# Altium footprint library Power_Card_1.PcbLib: 40 footprints (part 3 of 3)
Each footprint in its own frame and in the unit in brackets; x right, y up, seen from the top. Pads: shape width x height; smd on the part's side, far side on the other; paste and mask are expansions set on the pad; w line width, h text height; cw(c..) or ccw(c..) is an arc to the next point about the centre after c.
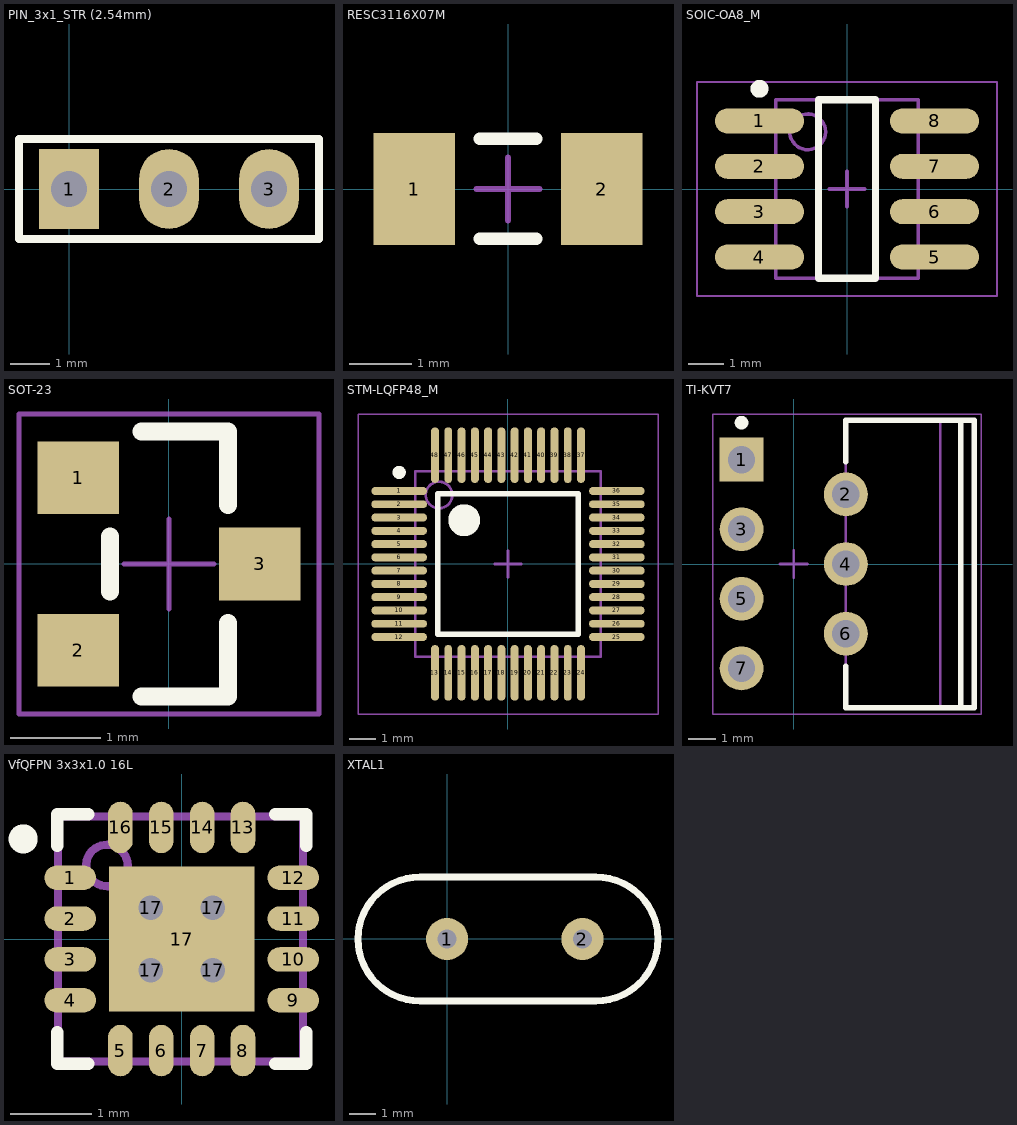
[diagram p2: the footprints below, top view; thin cyan lines are the x and y axes]

## PIN_3x1_STR (2.54mm) [mil]
pads (3):
  rect 60x80 hole 36: 1(0,0)
  oval 60x80 hole 36: 2(100,0) 3(200,0)
Top Overlay:
  lines w8: -50,-50 250,-50 250,0 250,50 -50,50 -50,0 -50,-50
3D body "Pin header 1x3 TH Pitch 2_54mm.step": height 373.85, standoff -125.98, extent -50,-50 250,50

## RESC3116X07M [mm]
pads (2):
  rect 1.3x1.8 smd: 1(-1.5,0) 2(1.5,0)
Top Overlay:
  lines w0.2: -0.45,-0.8 0.45,-0.8 ; -0.45,0.8 0.45,0.8
Mechanical 15:
  lines w0.1: -0.5,0 0.5,0 ; 0,-0.5 0,0.5
3D body "User Library-YAGEO RC1206.STEP": height 0.52, standoff -0.03, extent -1.55,-0.8 1.55,0.8

## SOIC-OA8_M [mm]
pads (8):
  oval 2.5x0.7 smd: 1(-2.45,1.905) 2(-2.45,0.635) 3(-2.45,-0.635) 4(-2.45,-1.905) 5(2.45,-1.905) 6(2.45,-0.635) 7(2.45,0.635) 8(2.45,1.905)
Top Overlay:
  circle w0.25: c-2.45,2.805 r0.125
  lines w0.2: -0.8,-2.5 -0.8,2.5 0.8,2.5 0.8,-2.5 -0.8,-2.5
Mechanical 13:
  circle w0.1: c-1.1,1.6 r0.5
  lines w0.1: -2,-2.5 -2,2.5 2,2.5 2,-2.5 -2,-2.5
Mechanical 15:
  lines w0.05: -4.2,-3 -4.2,3 4.2,3 4.2,-3 -4.2,-3
  lines w0.1: -0.5,0 0.5,0 ; 0,-0.5 0,0.5
3D body "User Library-SOIC-8-1.step": height 1.75, standoff 0, extent -3,-2.45 3,2.45

## SOT-23 [mm]
pads (3):
  rect 0.9x0.8 smd: 1(-1,0.95) 2(-1,-0.95) 3(1,0)
Top Overlay:
  lines w0.2: -0.65,-0.3 -0.65,0.3 ; -0.3,-1.46 0.65,-1.46 0.65,-0.65 ; -0.3,1.46 0.65,1.46 0.65,0.65
Mechanical 15:
  lines w0.05: -0.5,0 0.5,0 ; 0,-0.5 0,0.5 ; -1.651,-1.651 1.651,-1.651 1.651,1.651 -1.651,1.651 -1.651,-1.651
3D body "User Library-SOT-23-4.step": height 1.07, standoff 0, extent -1.191,-1.475 1.191,1.475

## STM-LQFP48_M [mm]
pads (48):
  oval 2.1x0.3 smd: 1(-4.1,2.75) 2(-4.1,2.25) 3(-4.1,1.75) 4(-4.1,1.25) 5(-4.1,0.75) 6(-4.1,0.25) 7(-4.1,-0.25) 8(-4.1,-0.75) 9(-4.1,-1.25) 10(-4.1,-1.75) 11(-4.1,-2.25) 12(-4.1,-2.75) 25(4.1,-2.75) 26(4.1,-2.25) 27(4.1,-1.75) 28(4.1,-1.25) 29(4.1,-0.75) 30(4.1,-0.25) 31(4.1,0.25) 32(4.1,0.75) 33(4.1,1.25) 34(4.1,1.75) 35(4.1,2.25) 36(4.1,2.75)
  oval 0.3x2.1 smd: 13(-2.75,-4.1) 14(-2.25,-4.1) 15(-1.75,-4.1) 16(-1.25,-4.1) 17(-0.75,-4.1) 18(-0.25,-4.1) 19(0.25,-4.1) 20(0.75,-4.1) 21(1.25,-4.1) 22(1.75,-4.1) 23(2.25,-4.1) 24(2.75,-4.1) 37(2.75,4.1) 38(2.25,4.1) 39(1.75,4.1) 40(1.25,4.1) 41(0.75,4.1) 42(0.25,4.1) 43(-0.25,4.1) 44(-0.75,4.1) 45(-1.25,4.1) 46(-1.75,4.1) 47(-2.25,4.1) 48(-2.75,4.1)
Top Overlay:
  circle w0.25: c-4.1,3.45 r0.125
  circle w0.6: c-1.65,1.65 r0.3
  lines w0.2: -2.65,-2.65 -2.65,2.65 2.65,2.65 2.65,-2.65 -2.65,-2.65
Mechanical 13:
  circle w0.1: c-2.6,2.6 r0.5
  lines w0.1: -3.5,-3.5 -3.5,3.5 3.5,3.5 3.5,-3.5 -3.5,-3.5
Mechanical 15:
  lines w0.05: -5.65,-5.65 -5.65,5.65 5.65,5.65 5.65,-5.65 -5.65,-5.65
  lines w0.1: -0.5,0 0.5,0 ; 0,-0.5 0,0.5
3D body: height 1.6, standoff 0.05, extent -3.5,-3.5 3.5,3.5

## TI-KVT7 [mm]
pads (7):
  rect 1.6x1.6 hole 1: 1(-1.905,3.81)
  round 1.6 hole 1: 2(1.905,2.54) 3(-1.905,1.27) 4(1.905,0) 5(-1.905,-1.27) 6(1.905,-2.54) 7(-1.905,-3.81)
Top Overlay:
  circle w0.25: c-1.905,5.16 r0.125
  lines w0.2: 1.895,-3.74 1.895,-5.25 6.595,-5.25 6.595,5.25 1.895,5.25 1.895,3.74 ; 6.095,-5.25 6.095,5.25
Mechanical 13:
  lines w0.1: 5.345,-5.205 5.345,5.205 ; 1.895,-5.205 6.595,-5.205 6.595,5.205 1.895,5.205 1.895,-5.205
Mechanical 15:
  lines w0.05: -2.955,-5.475 6.845,-5.475 6.845,5.475 -2.955,5.475 -2.955,-5.475
  lines w0.1: -0.5,0 0.5,0 ; 0,-0.5 0,0.5
3D body: height 21.43, standoff 20.61, extent 5.345,-5.075 6.595,5.075
3D body: height 19.06, standoff 18.68, extent 5.345,-5.075 6.595,-1.925
3D body: height 19.06, standoff 18.68, extent 5.345,1.925 6.595,5.075
3D body: height 18.68, standoff 18.3, extent 5.345,-5.075 6.595,-1.925
3D body: height 18.68, standoff 18.3, extent 5.345,1.925 6.595,5.075
3D body: height 19.42, standoff 19.06, extent 5.345,-5.075 6.595,-1.888
3D body: height 19.42, standoff 19.06, extent 5.345,1.888 6.595,5.075
3D body: height 18.31, standoff 17.94, extent 5.345,-5.075 6.595,-1.888
3D body: height 18.31, standoff 17.94, extent 5.345,1.888 6.595,5.075
3D body: height 19.75, standoff 19.42, extent 5.345,-5.075 6.595,-1.778
3D body: height 19.75, standoff 19.42, extent 5.345,1.778 6.595,5.075
3D body: height 17.95, standoff 17.61, extent 5.345,-5.075 6.595,-1.778
3D body: height 17.95, standoff 17.61, extent 5.345,1.778 6.595,5.075
3D body: height 20.05, standoff 19.75, extent 5.345,-5.075 6.595,-1.601
3D body: height 20.05, standoff 19.75, extent 5.345,1.601 6.595,5.075
3D body: height 17.62, standoff 17.32, extent 5.345,-5.075 6.595,-1.601
3D body: height 17.62, standoff 17.32, extent 5.345,1.601 6.595,5.075
3D body: height 20.29, standoff 20.04, extent 5.345,-5.075 6.595,-1.361
3D body: height 20.29, standoff 20.04, extent 5.345,1.361 6.595,5.075
3D body: height 17.32, standoff 17.08, extent 5.345,-5.075 6.595,-1.361
3D body: height 17.32, standoff 17.08, extent 5.345,1.361 6.595,5.075
3D body: height 20.46, standoff 20.28, extent 5.345,-5.075 6.595,-1.069
3D body: height 20.46, standoff 20.28, extent 5.345,1.069 6.595,5.075
3D body: height 17.08, standoff 16.9, extent 5.345,-5.075 6.595,-1.069
3D body: height 17.08, standoff 16.9, extent 5.345,1.069 6.595,5.075
3D body: height 20.57, standoff 20.46, extent 5.345,-5.075 6.595,-0.737
3D body: height 20.57, standoff 20.46, extent 5.345,0.737 6.595,5.075
3D body: height 16.91, standoff 16.79, extent 5.345,-5.075 6.595,-0.737
3D body: height 16.91, standoff 16.79, extent 5.345,0.737 6.595,5.075
3D body: height 20.61, standoff 20.57, extent 5.345,-5.075 6.595,-0.376
3D body: height 20.61, standoff 20.57, extent 5.345,0.376 6.595,5.075
3D body: height 16.8, standoff 16.76, extent 5.345,-5.075 6.595,-0.376
3D body: height 16.8, standoff 16.76, extent 5.345,0.376 6.595,5.075
3D body: height 16.76, standoff 15.18, extent 5.345,-5.075 6.595,5.075
3D body: height 15.18, standoff 5.34, extent 1.895,-5.225 6.595,5.225
3D body: height 0, standoff -1.6, extent -2.15,-4.205 -1.66,-3.415
3D body: height 5.34, standoff 2.92, extent 4,-4.36 4.49,-3.26
3D body: height 2.92, standoff 2.43, extent -2.15,-4.36 4.49,-3.26
3D body: height 2.43, standoff 0, extent -2.15,-4.36 -1.66,-3.26
3D body: height 0, standoff -1.6, extent 1.66,-2.935 2.15,-2.145
3D body: height 5.34, standoff 2.92, extent 4,-3.09 4.49,-1.99
3D body: height 2.92, standoff 2.43, extent 1.66,-3.09 4.49,-1.99
3D body: height 2.43, standoff 0, extent 1.66,-3.09 2.15,-1.99
3D body: height 0, standoff -1.6, extent -2.15,-1.665 -1.66,-0.875
3D body: height 5.34, standoff 2.92, extent 4,-1.82 4.49,-0.72
3D body: height 2.92, standoff 2.43, extent -2.15,-1.82 4.49,-0.72
3D body: height 2.43, standoff 0, extent -2.15,-1.82 -1.66,-0.72
3D body: height 0, standoff -1.6, extent 1.66,-0.395 2.15,0.395
3D body: height 5.34, standoff 2.92, extent 4,-0.55 4.49,0.55
3D body: height 2.92, standoff 2.43, extent 1.66,-0.55 4.49,0.55
3D body: height 2.43, standoff 0, extent 1.66,-0.55 2.15,0.55
3D body: height 0, standoff -1.6, extent -2.15,0.875 -1.66,1.665
3D body: height 5.34, standoff 2.92, extent 4,0.72 4.49,1.82
3D body: height 2.92, standoff 2.43, extent -2.15,0.72 4.49,1.82
3D body: height 2.43, standoff 0, extent -2.15,0.72 -1.66,1.82
3D body: height 0, standoff -1.6, extent 1.66,2.145 2.15,2.935
3D body: height 5.34, standoff 2.92, extent 4,1.99 4.49,3.09
3D body: height 2.92, standoff 2.43, extent 1.66,1.99 4.49,3.09
3D body: height 2.43, standoff 0, extent 1.66,1.99 2.15,3.09
3D body: height 0, standoff -1.6, extent -2.15,3.415 -1.66,4.205
3D body: height 5.34, standoff 2.92, extent 4,3.26 4.49,4.36
3D body: height 2.92, standoff 2.43, extent -2.15,3.26 4.49,4.36
3D body: height 2.43, standoff 0, extent -2.15,3.26 -1.66,4.36

## VfQFPN 3x3x1.0 16L [mm]
pads (21):
  oval 0.63x0.3 smd: 1(-1.365,0.75) 2(-1.365,0.25) 3(-1.365,-0.25) 4(-1.365,-0.75) 9(1.365,-0.75) 10(1.365,-0.25) 11(1.365,0.25) 12(1.365,0.75)
  oval 0.3x0.63 smd: 5(-0.75,-1.365) 6(-0.25,-1.365) 7(0.25,-1.365) 8(0.75,-1.365) 13(0.75,1.365) 14(0.25,1.365) 15(-0.25,1.365) 16(-0.75,1.365)
  round 0.6 hole 0.3: 17(-0.381,-0.381) 17(-0.381,0.381) 17(0.381,-0.381) 17(0.381,0.381)
  rect 1.778x1.778 smd: 17(0,0)
Top Overlay:
  circle w0.254: c-1.94,1.225 r0.051
  lines w0.152: -1.524,-1.143 -1.524,-1.524 -1.143,-1.524 ; -1.524,1.143 -1.524,1.524 -1.143,1.524 ; 1.143,-1.524 1.524,-1.524 1.524,-1.143 ; 1.143,1.524 1.238,1.524 1.429,1.524 1.524,1.524 1.524,1.143
Mechanical 8:
  circle w0.1: c-0.915,0.9 r0.254
  lines w0.1: -1.515,-1.5 -1.515,1.5 1.485,1.5 1.485,-1.5 -1.515,-1.5
Mechanical 15:
  lines w0.051: -0.33,0 0.33,0 ; 0,-0.33 0,0.33
3D body "ALSRobot-QFN16%203x3[1].STEP": height 0.9, standoff 0, extent -1.549,-1.521 1.493,1.521

## XTAL1 [mil]
pads (2):
  round 62 hole 28: 1(-0.36,-0.2) 2(199.64,-0.2)
Top Overlay:
  lines w10: -40.36,-91.73 cw(c-40.36,-0.2) -40.36,91.34 219.64,91.34 cw(c219.64,-0.2) 219.64,-91.73 -40.36,-91.73
3D body: height 144.88, standoff 0, extent -131.92,-91.75 311.19,91.36